# Altium footprint library MTCH101.PcbLib: 10 footprints
Each footprint in its own frame and in the unit in brackets; x right, y up, seen from the top. Pads: shape width x height; smd on the part's side, far side on the other; paste and mask are expansions set on the pad; w line width, h text height; cw(c..) or ccw(c..) is an arc to the next point about the centre after c.
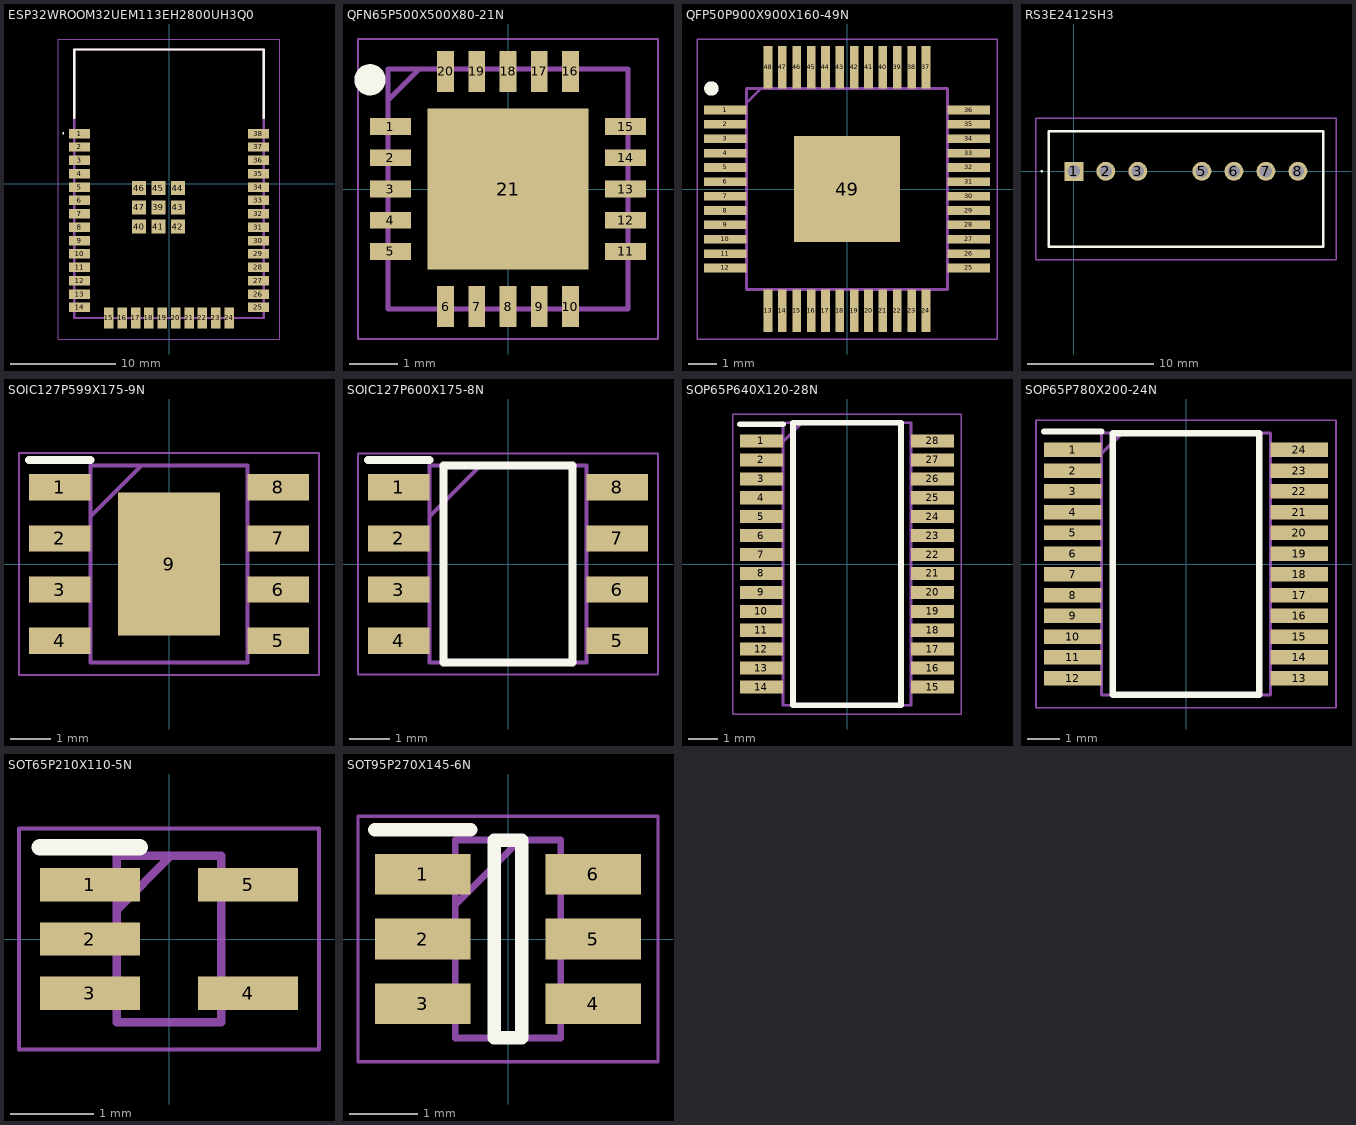
[diagram p0: the footprints below, top view; thin cyan lines are the x and y axes]

## ESP32WROOM32UEM113EH2800UH3Q0 [mm]
pads (47):
  rect 2x0.9 smd: 1(-8.5,4.76) 2(-8.5,3.49) 3(-8.5,2.22) 4(-8.5,0.95) 5(-8.5,-0.32) 6(-8.5,-1.59) 7(-8.5,-2.86) 8(-8.5,-4.13) 9(-8.5,-5.4) 10(-8.5,-6.67) 11(-8.5,-7.94) 12(-8.5,-9.21) 13(-8.5,-10.48) 14(-8.5,-11.75) 25(8.5,-11.75) 26(8.5,-10.48) 27(8.5,-9.21) 28(8.5,-7.94) 29(8.5,-6.67) 30(8.5,-5.4) 31(8.5,-4.13) 32(8.5,-2.86) 33(8.5,-1.59) 34(8.5,-0.32) 35(8.5,0.95) 36(8.5,2.22) 37(8.5,3.49) 38(8.5,4.76)
  rect 0.9x2 smd: 15(-5.715,-12.75) 16(-4.445,-12.75) 17(-3.175,-12.75) 18(-1.905,-12.75) 19(-0.635,-12.75) 20(0.635,-12.75) 21(1.905,-12.75) 22(3.175,-12.75) 23(4.445,-12.75) 24(5.715,-12.75)
  rect 1.33x1.33 smd: 39(-1,-2.24) 40(-2.835,-4.075) 41(-1,-4.075) 42(0.835,-4.075) 43(0.835,-2.24) 44(0.835,-0.405) 45(-1,-0.405) 46(-2.835,-0.405) 47(-2.835,-2.24)
Top Overlay:
  lines w0.1: -10.1,4.8 cw(c-10.05,4.8) -10,4.8 cw(c-10.05,4.8) -10.1,4.8
  lines w0.2: -9,6.25 -9,12.75 9,12.75 9,6.25
Mechanical 13:
  lines w0.2: -9,-12.75 9,-12.75 9,12.75 -9,12.75 -9,-12.75
Mechanical 15:
  lines w0.1: -10.5,-14.75 10.5,-14.75 10.5,13.75 -10.5,13.75 -10.5,-14.75
3D body "ESP32-WROOM-32UE_M113EH2800UH3Q0_.stp": height 3.2, standoff 0, extent -9,-13.25 9,5.95

## QFN65P500X500X80-21N [mm]
pads (21):
  rect 0.85x0.35 smd: 1(-2.45,1.3) 2(-2.45,0.65) 3(-2.45,0) 4(-2.45,-0.65) 5(-2.45,-1.3) 11(2.45,-1.3) 12(2.45,-0.65) 13(2.45,0) 14(2.45,0.65) 15(2.45,1.3)
  rect 0.35x0.85 smd: 6(-1.3,-2.45) 7(-0.65,-2.45) 8(0,-2.45) 9(0.65,-2.45) 10(1.3,-2.45) 16(1.3,2.45) 17(0.65,2.45) 18(0,2.45) 19(-0.65,2.45) 20(-1.3,2.45)
  rect 3.35x3.35 smd: 21(0,0)
Top Overlay:
  circle w0.325: c-2.875,2.275 r0.162
Mechanical 13:
  lines w0.1: -2.5,1.85 -1.85,2.5 ; -2.5,-2.5 -2.5,2.5 2.5,2.5 2.5,-2.5 -2.5,-2.5
Mechanical 15:
  lines w0.05: -3.125,-3.125 -3.125,3.125 3.125,3.125 3.125,-3.125 -3.125,-3.125
3D body "MAX17527AATP+.stp": height 0.8, standoff 0, extent -2.55,-2.55 2.55,2.55

## QFP50P900X900X160-49N [mm]
pads (49):
  rect 1.475x0.3 smd: 1(-4.238,2.75) 2(-4.238,2.25) 3(-4.238,1.75) 4(-4.238,1.25) 5(-4.238,0.75) 6(-4.238,0.25) 7(-4.238,-0.25) 8(-4.238,-0.75) 9(-4.238,-1.25) 10(-4.238,-1.75) 11(-4.238,-2.25) 12(-4.238,-2.75) 25(4.238,-2.75) 26(4.238,-2.25) 27(4.238,-1.75) 28(4.238,-1.25) 29(4.238,-0.75) 30(4.238,-0.25) 31(4.238,0.25) 32(4.238,0.75) 33(4.238,1.25) 34(4.238,1.75) 35(4.238,2.25) 36(4.238,2.75)
  rect 0.3x1.475 smd: 13(-2.75,-4.238) 14(-2.25,-4.238) 15(-1.75,-4.238) 16(-1.25,-4.238) 17(-0.75,-4.238) 18(-0.25,-4.238) 19(0.25,-4.238) 20(0.75,-4.238) 21(1.25,-4.238) 22(1.75,-4.238) 23(2.25,-4.238) 24(2.75,-4.238) 37(2.75,4.238) 38(2.25,4.238) 39(1.75,4.238) 40(1.25,4.238) 41(0.75,4.238) 42(0.25,4.238) 43(-0.25,4.238) 44(-0.75,4.238) 45(-1.25,4.238) 46(-1.75,4.238) 47(-2.25,4.238) 48(-2.75,4.238)
  rect 3.7x3.7 smd: 49(0,0)
Top Overlay:
  circle w0.25: c-4.725,3.5 r0.125
Mechanical 13:
  lines w0.1: -3.5,3 -3,3.5 ; -3.5,-3.5 -3.5,3.5 3.5,3.5 3.5,-3.5 -3.5,-3.5
Mechanical 15:
  lines w0.05: -5.225,-5.225 -5.225,5.225 5.225,5.225 5.225,-5.225 -5.225,-5.225
3D body "LTC3300-1.stp": height 1.6, standoff 0, extent -4.5,-4.5 4.5,4.5

## RS3E2412SH3 [mm]
pads (7):
  rect 1.5x1.5 hole 1: 1(0,0)
  round 1.5 hole 1: 2(2.54,0) 3(5.08,0) 5(10.16,0) 6(12.7,0) 7(15.24,0) 8(17.78,0)
Top Overlay:
  lines w0.1: -2.6,0 ccw(c-2.55,0) -2.5,0 ccw(c-2.55,0) -2.6,0
  lines w0.2: -2,-6 -2,3.2 19.8,3.2 19.8,-6 -2,-6
Mechanical 13:
  lines w0.1: -2,-6 -2,3.2 19.8,3.2 19.8,-6 -2,-6
Mechanical 15:
  lines w0.1: -3,-7 -3,4.2 20.8,4.2 20.8,-7 -3,-7
3D body "RS3E-2412S_H3.stp": height 11, standoff -4.2, extent -2,-6 19.8,3.2

## SOIC127P599X175-9N [mm]
pads (9):
  rect 1.526x0.65 smd: 1(-2.712,1.905) 2(-2.712,0.635) 3(-2.712,-0.635) 4(-2.712,-1.905) 5(2.712,-1.905) 6(2.712,-0.635) 7(2.712,0.635) 8(2.712,1.905)
  rect 2.53x3.55 smd: 9(0,0)
Top Overlay:
  lines w0.2: -3.475,2.58 -1.95,2.58
Mechanical 13:
  lines w0.1: -1.95,1.181 -0.68,2.451 ; -1.95,-2.451 -1.95,2.451 1.95,2.451 1.95,-2.451 -1.95,-2.451
Mechanical 15:
  lines w0.05: -3.725,-2.752 -3.725,2.752 3.725,2.752 3.725,-2.752 -3.725,-2.752
3D body "LT6370HS8E#TRPBF.stp": height 1.75, standoff 0, extent -2.997,-2.451 2.997,2.451

## SOIC127P600X175-8N [mm]
pads (8):
  rect 1.525x0.65 smd: 1(-2.712,1.905) 2(-2.712,0.635) 3(-2.712,-0.635) 4(-2.712,-1.905) 5(2.712,-1.905) 6(2.712,-0.635) 7(2.712,0.635) 8(2.712,1.905)
Top Overlay:
  lines w0.2: -3.475,2.58 -1.95,2.58 ; -1.6,-2.45 -1.6,2.45 1.6,2.45 1.6,-2.45 -1.6,-2.45
Mechanical 13:
  lines w0.1: -1.95,1.18 -0.68,2.45 ; -1.95,-2.45 -1.95,2.45 1.95,2.45 1.95,-2.45 -1.95,-2.45
Mechanical 15:
  lines w0.05: -3.725,-2.75 -3.725,2.75 3.725,2.75 3.725,-2.75 -3.725,-2.75
3D body "NE555DR.stp": height 1.75, standoff 0, extent -3,-2.45 3,2.45

## SOP65P640X120-28N [mm]
pads (28):
  rect 1.475x0.45 smd: 1(-2.938,4.225) 2(-2.938,3.575) 3(-2.938,2.925) 4(-2.938,2.275) 5(-2.938,1.625) 6(-2.938,0.975) 7(-2.938,0.325) 8(-2.938,-0.325) 9(-2.938,-0.975) 10(-2.938,-1.625) 11(-2.938,-2.275) 12(-2.938,-2.925) 13(-2.938,-3.575) 14(-2.938,-4.225) 15(2.938,-4.225) 16(2.938,-3.575) 17(2.938,-2.925) 18(2.938,-2.275) 19(2.938,-1.625) 20(2.938,-0.975) 21(2.938,-0.325) 22(2.938,0.325) 23(2.938,0.975) 24(2.938,1.625) 25(2.938,2.275) 26(2.938,2.925) 27(2.938,3.575) 28(2.938,4.225)
Top Overlay:
  lines w0.2: -3.675,4.8 -2.2,4.8 ; -1.85,-4.85 -1.85,4.85 1.85,4.85 1.85,-4.85 -1.85,-4.85
Mechanical 13:
  lines w0.1: -2.2,4.2 -1.55,4.85 ; -2.2,-4.85 -2.2,4.85 2.2,4.85 2.2,-4.85 -2.2,-4.85
Mechanical 15:
  lines w0.05: -3.925,-5.15 -3.925,5.15 3.925,5.15 3.925,-5.15 -3.925,-5.15
3D body "ADG1606BRUZ.stp": height 1.2, standoff 0, extent -3.2,-4.85 3.2,4.85

## SOP65P780X200-24N [mm]
pads (24):
  rect 1.8x0.45 smd: 1(-3.55,3.575) 2(-3.55,2.925) 3(-3.55,2.275) 4(-3.55,1.625) 5(-3.55,0.975) 6(-3.55,0.325) 7(-3.55,-0.325) 8(-3.55,-0.975) 9(-3.55,-1.625) 10(-3.55,-2.275) 11(-3.55,-2.925) 12(-3.55,-3.575) 13(3.55,-3.575) 14(3.55,-2.925) 15(3.55,-2.275) 16(3.55,-1.625) 17(3.55,-0.975) 18(3.55,-0.325) 19(3.55,0.325) 20(3.55,0.975) 21(3.55,1.625) 22(3.55,2.275) 23(3.55,2.925) 24(3.55,3.575)
Top Overlay:
  lines w0.2: -4.45,4.15 -2.65,4.15 ; -2.3,-4.1 -2.3,4.1 2.3,4.1 2.3,-4.1 -2.3,-4.1
Mechanical 13:
  lines w0.1: -2.65,3.45 -2,4.1 ; -2.65,-4.1 -2.65,4.1 2.65,4.1 2.65,-4.1 -2.65,-4.1
Mechanical 15:
  lines w0.05: -4.7,-4.5 -4.7,4.5 4.7,4.5 4.7,-4.5 -4.7,-4.5
3D body "ADUM5410BRSZ.stp": height 2, standoff 0, extent -3.9,-4.1 3.9,4.1

## SOT65P210X110-5N [mm]
pads (5):
  rect 1.2x0.4 smd: 1(-0.95,0.65) 2(-0.95,0) 3(-0.95,-0.65) 4(0.95,-0.65) 5(0.95,0.65)
Top Overlay:
  lines w0.2: -1.55,1.1 -0.35,1.1
Mechanical 13:
  lines w0.1: -0.625,0.35 0.025,1 ; -0.625,-1 -0.625,1 0.625,1 0.625,-1 -0.625,-1
Mechanical 15:
  lines w0.05: -1.8,-1.325 -1.8,1.325 1.8,1.325 1.8,-1.325 -1.8,-1.325
3D body "SN74AHC1G14DCKTG4.stp": height 1, standoff 0, extent -1.05,-1 1.05,1

## SOT95P270X145-6N [mm]
pads (6):
  rect 1.4x0.6 smd: 1(-1.25,0.95) 2(-1.25,0) 3(-1.25,-0.95) 4(1.25,-0.95) 5(1.25,0) 6(1.25,0.95)
Top Overlay:
  lines w0.2: -1.95,1.6 -0.55,1.6 ; -0.2,-1.45 -0.2,1.45 0.2,1.45 0.2,-1.45 -0.2,-1.45
Mechanical 13:
  lines w0.1: -0.775,0.5 0.175,1.45 ; -0.775,-1.45 -0.775,1.45 0.775,1.45 0.775,-1.45 -0.775,-1.45
Mechanical 15:
  lines w0.05: -2.2,-1.8 -2.2,1.8 2.2,1.8 2.2,-1.8 -2.2,-1.8
3D body "MTCH101-I_OT.stp": height 1.45, standoff 0, extent -1.35,-1.45 1.35,1.45